# Altium schematic symbol library Lumberg-Connectors.SchLib: 1 symbol
Pins are listed as number, name and electrical type; pins without a type are passive.

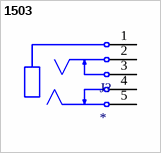
[diagram p0: symbol 1503]

## 1503
designator J?
1503 09/17 Jack connector
footprint 1503 (1503 09/17 Jack)
pins: 1, 2, 3, 4, 5